# Altium schematic symbol library microB.SCHLIB: 2 symbols
Pins are listed as number, name and electrical type; pins without a type are passive.

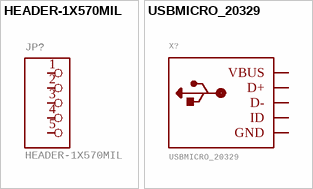
[diagram p0: symbols HEADER-1X570MIL to USBMICRO_20329]

## HEADER-1X570MIL
designator JP?
PIN HEADER; GateName_1: A; SymbolName_1: PINHD5; DeviceName: 70MIL; LibraryName: microbuilder; DeviceSetName: HEADER-1X5
footprint 1X05_ROUND_70
pins: 1, 2, 3, 4, 5

## USBMICRO_20329
designator X?
USB ConnectorsUSBMINIB - Surface Mount Female Mini-B USB Connector    4UConnector: 06564; GateName_1: G$1; SymbolName_1: USB; DeviceName: MICRO_20329; LibraryName: microbuilder; DeviceSetName: USB
footprint 4UCONN_20329
pins: BASE@1 BASE@2 GND SPRT@1 SPRT@2 SPRT@3 SPRT@4 GND (power), D+ (io), D- (io), ID (io), VBUS (power)